# Altium footprint library SC70-6.PcbLib: 1 footprints
Each footprint in its own frame and in the unit in brackets; x right, y up, seen from the top. Pads: shape width x height; smd on the part's side, far side on the other; paste and mask are expansions set on the pad; w line width, h text height; cw(c..) or ccw(c..) is an arc to the next point about the centre after c.
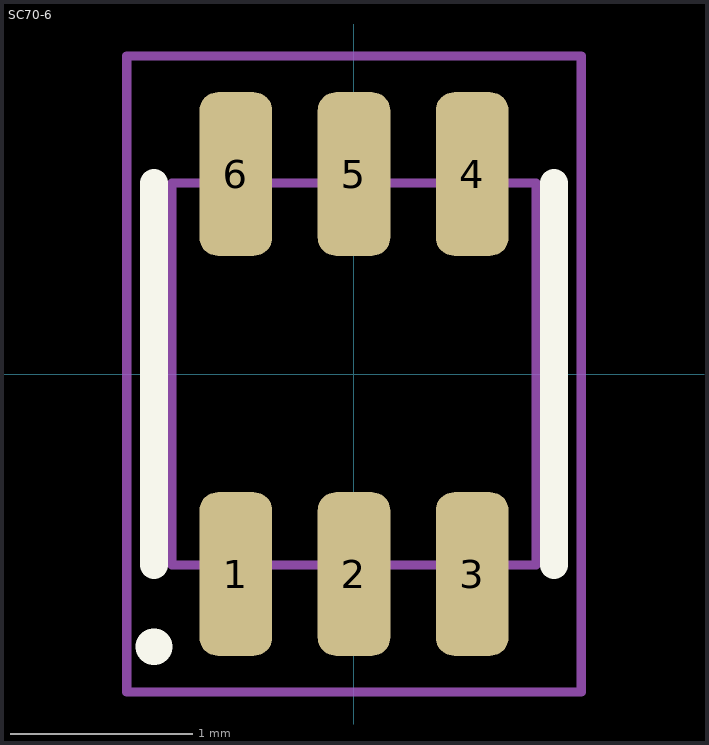
[diagram p0: the footprint, top view; thin cyan lines are the x and y axes]

## SC70-6 [mm] "Current Sense Amp Footprint"
pads (6):
  rrect50% 0.4x0.9 smd mask+0.075: 1(-0.65,-1.1) 2(0,-1.1) 3(0.65,-1.1) 4(0.65,1.1) 5(0,1.1) 6(-0.65,1.1)
Top Overlay:
  circle w0.2: c-1.1,-1.5 r0.001
  lines w0.152: -1.1,-1.05 -1.1,1.05 ; 1.1,-1.05 1.1,1.05
Mechanical 13:
  lines w0.05: -1,-1.05 1,-1.05 1,1.05 -1,1.05 -1,-1.05
Mechanical 15:
  lines w0.05: -1.25,-1.75 1.25,-1.75 1.25,1.75 -1.25,1.75 -1.25,-1.75
3D body "DCK0006A.stp": height 1, standoff 0, extent -1,-1.05 1,1.05